# Altium footprint library MODULE_NUCLEO-F429ZI.PcbLib: 1 footprints
Each footprint in its own frame and in the unit in brackets; x right, y up, seen from the top. Pads: shape width x height; smd on the part's side, far side on the other; paste and mask are expansions set on the pad; w line width, h text height; cw(c..) or ccw(c..) is an arc to the next point about the centre after c.
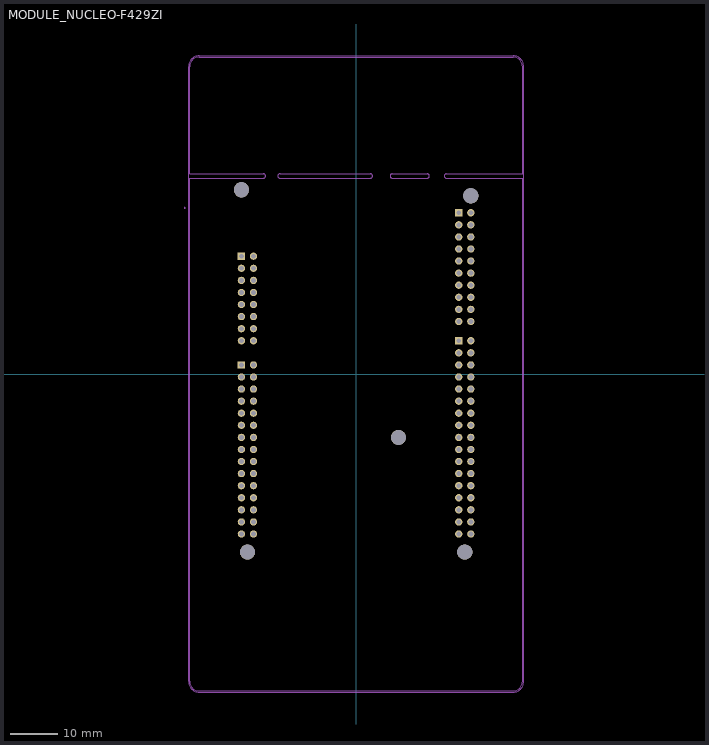
[diagram p0: the footprint, top view; thin cyan lines are the x and y axes]

## MODULE_NUCLEO-F429ZI [mm]
pads (105):
  rect 1.53x1.53 / inner round 1.53 / far side rect 1.53x1.53 hole 1.02: CN7_1(21.59,33.914) CN8_1(-24.13,24.77) CN9_1(-24.13,1.91) CN10_1(21.59,6.99)
  round 1.53 hole 1.02: CN7_2(24.13,33.914) CN7_3(21.59,31.374) CN7_4(24.13,31.374) CN7_5(21.59,28.834) CN7_6(24.13,28.834) CN7_7(21.59,26.294) CN7_8(24.13,26.294) CN7_9(21.59,23.754) CN7_10(24.13,23.754) CN7_11(21.59,21.214) CN7_12(24.13,21.214) CN7_13(21.59,18.674) CN7_14(24.13,18.674) CN7_15(21.59,16.134) CN7_16(24.13,16.134) CN7_17(21.59,13.594) CN7_18(24.13,13.594) CN7_19(21.59,11.054) CN7_20(24.13,11.054) CN8_2(-21.59,24.77) CN8_3(-24.13,22.23) CN8_4(-21.59,22.23) CN8_5(-24.13,19.69) CN8_6(-21.59,19.69) CN8_7(-24.13,17.15) CN8_8(-21.59,17.15) CN8_9(-24.13,14.61) CN8_10(-21.59,14.61) CN8_11(-24.13,12.07) CN8_12(-21.59,12.07) CN8_13(-24.13,9.53) CN8_14(-21.59,9.53) CN8_15(-24.13,6.99) CN8_16(-21.59,6.99) CN9_2(-21.59,1.91) CN9_3(-24.13,-0.63) CN9_4(-21.59,-0.63) CN9_5(-24.13,-3.17) CN9_6(-21.59,-3.17) CN9_7(-24.13,-5.71) CN9_8(-21.59,-5.71) CN9_9(-24.13,-8.25) CN9_10(-21.59,-8.25) CN9_11(-24.13,-10.79) CN9_12(-21.59,-10.79) CN9_13(-24.13,-13.33) CN9_14(-21.59,-13.33) CN9_15(-24.13,-15.87) CN9_16(-21.59,-15.87) CN9_17(-24.13,-18.41) CN9_18(-21.59,-18.41) CN9_19(-24.13,-20.95) CN9_20(-21.59,-20.95) CN9_21(-24.13,-23.49) CN9_22(-21.59,-23.49) CN9_23(-24.13,-26.03) CN9_24(-21.59,-26.03) CN9_25(-24.13,-28.57) CN9_26(-21.59,-28.57) CN9_27(-24.13,-31.11) CN9_28(-21.59,-31.11) CN9_29(-24.13,-33.65) CN9_30(-21.59,-33.65) CN10_2(24.13,6.99) CN10_3(21.59,4.45) CN10_4(24.13,4.45) CN10_5(21.59,1.91) CN10_6(24.13,1.91) CN10_7(21.59,-0.63) CN10_8(24.13,-0.63) CN10_9(21.59,-3.17) CN10_10(24.13,-3.17) CN10_11(21.59,-5.71) CN10_12(24.13,-5.71) CN10_13(21.59,-8.25) CN10_14(24.13,-8.25) CN10_15(21.59,-10.79) CN10_16(24.13,-10.79) CN10_17(21.59,-13.33) CN10_18(24.13,-13.33) CN10_19(21.59,-15.87) CN10_20(24.13,-15.87) CN10_21(21.59,-18.41) CN10_22(24.13,-18.41) CN10_23(21.59,-20.95) CN10_24(24.13,-20.95) CN10_25(21.59,-23.49) CN10_26(24.13,-23.49) CN10_27(21.59,-26.03) CN10_28(24.13,-26.03) CN10_29(21.59,-28.57) CN10_30(24.13,-28.57) CN10_31(21.59,-31.11) CN10_32(24.13,-31.11) CN10_33(21.59,-33.65) CN10_34(24.13,-33.65)
  round 3.2 hole 3.2 unplated: ""(-24.13,38.74) ""(-22.86,-37.46) ""(8.89,-13.33) ""(22.86,-37.46) ""(24.13,37.47)
Bottom Overlay:
  circle w0.2: c-36.04,34.93 r0.1
  lines w0.127: -19.507,41.17 -35,41.17 -35,-64.67 ccw(c-33,-64.67) -33,-66.67 33,-66.67 ccw(c33,-64.67) 35,-64.67 35,41.17 18.999,41.17 ; -19.507,42.11 -35,42.11 -35,64.67 cw(c-33,64.67) -33,66.67 33,66.67 cw(c33,64.67) 35,64.67 35,42.11 18.999,42.11 ; -19.506,41.17 ccw(c-19.515,41.64) -19.506,42.11 ; -16.003,41.17 cw(c-15.995,41.64) -16.003,42.11 ; -16.002,41.17 2.997,41.17 ; -16.002,42.11 2.997,42.11 ; 2.998,41.17 ccw(c2.99,41.64) 2.998,42.11 ; 7.619,41.17 cw(c7.627,41.64) 7.619,42.11 ; 7.62,41.17 14.935,41.17 ; 7.62,42.11 14.935,42.11 ; 14.936,41.17 ccw(c14.928,41.64) 14.936,42.11 ; 18.998,41.17 cw(c19.007,41.64) 18.998,42.11
Assembly Top:
  circle w0.2: c-36.04,34.93 r0.1
  lines w0.127: -19.507,41.17 -35,41.17 -35,-64.67 ccw(c-33,-64.67) -33,-66.67 33,-66.67 ccw(c33,-64.67) 35,-64.67 35,41.17 18.999,41.17 ; -19.507,42.11 -35,42.11 -35,64.67 cw(c-33,64.67) -33,66.67 33,66.67 cw(c33,64.67) 35,64.67 35,42.11 18.999,42.11 ; -19.506,41.17 ccw(c-19.515,41.64) -19.506,42.11 ; -16.003,41.17 cw(c-15.995,41.64) -16.003,42.11 ; -16.002,41.17 2.997,41.17 ; -16.002,42.11 2.997,42.11 ; 2.998,41.17 ccw(c2.99,41.64) 2.998,42.11 ; 7.619,41.17 cw(c7.627,41.64) 7.619,42.11 ; 7.62,41.17 14.935,41.17 ; 7.62,42.11 14.935,42.11 ; 14.936,41.17 ccw(c14.928,41.64) 14.936,42.11 ; 18.998,41.17 cw(c19.007,41.64) 18.998,42.11
Courtyard Top:
  lines w0.05: -35.25,-64.67 ccw(c-33,-64.67) -33,-66.92 33,-66.92 ccw(c33,-64.67) 35.25,-64.67 35.25,64.67 ccw(c33,64.67) 33,66.92 -33,66.92 ccw(c-33,64.67) -35.25,64.67 -35.25,-64.67
3D body "NUCLEO-F429ZI.stp": height 1.46, standoff -30.64, extent -35,-69.27 35,67.72